# EAGLE library part SC560C (library modular_robotics)
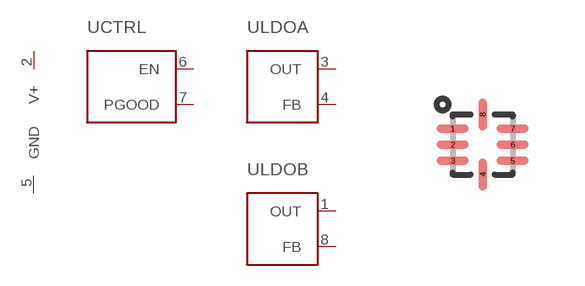
[diagram p3: symbol with the pads of MLPQ-UT8; footprint MLPQ-UT8]

Designator prefix -; gates G$1=PWR+G CTRL=SC560_ADJ_CTRL LDOB=SC560_ADJ_LDO LDOA=SC560_ADJ_LDO

## SC560C  [MLPQ-UT8]
1  LDOB:OUT
2  G$1:V+  pwr
3  LDOA:OUT
4  LDOA:FB
5  G$1:GND  pwr
6  CTRL:EN
7  CTRL:PGOOD
8  LDOB:FB

## Footprint MLPQ-UT8 (pad centres in mm)
smd 0.8 x 0.2: 1 -0.75,0.4; 2 -0.75,0; 3 -0.75,-0.4; 5 0.75,-0.4; 6 0.75,0; 7 0.75,0.4
smd 0.2 x 0.8: 4 0,-0.75; 8 0,0.75